# Altium footprint library LGA.PcbLib: 1 footprints
Each footprint in its own frame and in the unit in brackets; x right, y up, seen from the top. Pads: shape width x height; smd on the part's side, far side on the other; paste and mask are expansions set on the pad; w line width, h text height; cw(c..) or ccw(c..) is an arc to the next point about the centre after c.
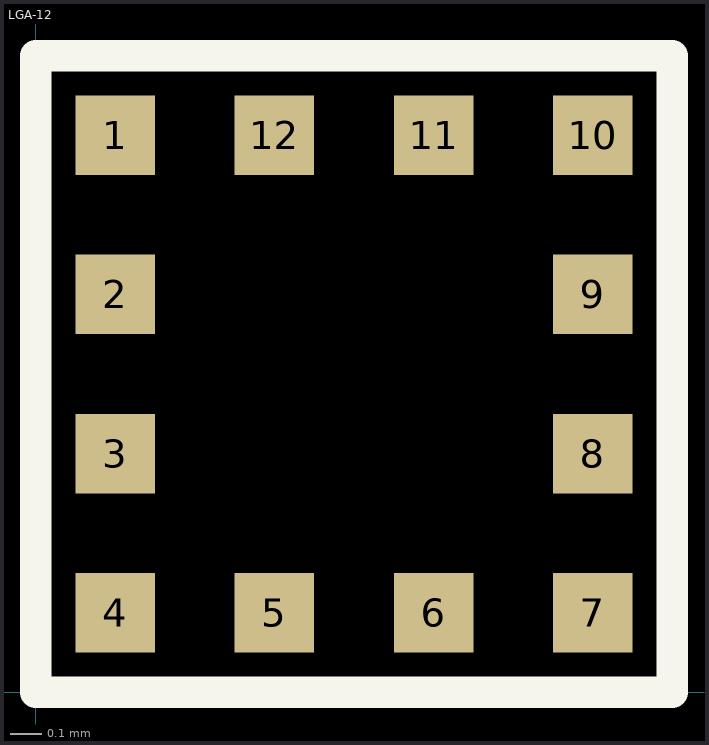
[diagram p0: the footprint, top view; thin cyan lines are the x and y axes]

## LGA-12 [mm]
pads (12):
  rect 0.25x0.25 smd: 1(0.25,1.75) 2(0.25,1.25) 3(0.25,0.75) 4(0.25,0.25) 5(0.75,0.25) 6(1.25,0.25) 7(1.75,0.25) 8(1.75,0.75) 9(1.75,1.25) 10(1.75,1.75) 11(1.25,1.75) 12(0.75,1.75)
Top Overlay:
  lines w0.1: 0,0 0,2 2,2 2,0 0,0
3D body "User Library-lga-2x2x0_9.STEP": height 0.95, standoff 0, extent 0.003,0.003 2.003,2.003